# Altium footprint library SPT3G_LCBoard.PcbLib: 31 footprints (part 1 of 2)
Each footprint in its own frame and in the unit in brackets; x right, y up, seen from the top. Pads: shape width x height; smd on the part's side, far side on the other; paste and mask are expansions set on the pad; w line width, h text height; cw(c..) or ccw(c..) is an arc to the next point about the centre after c.
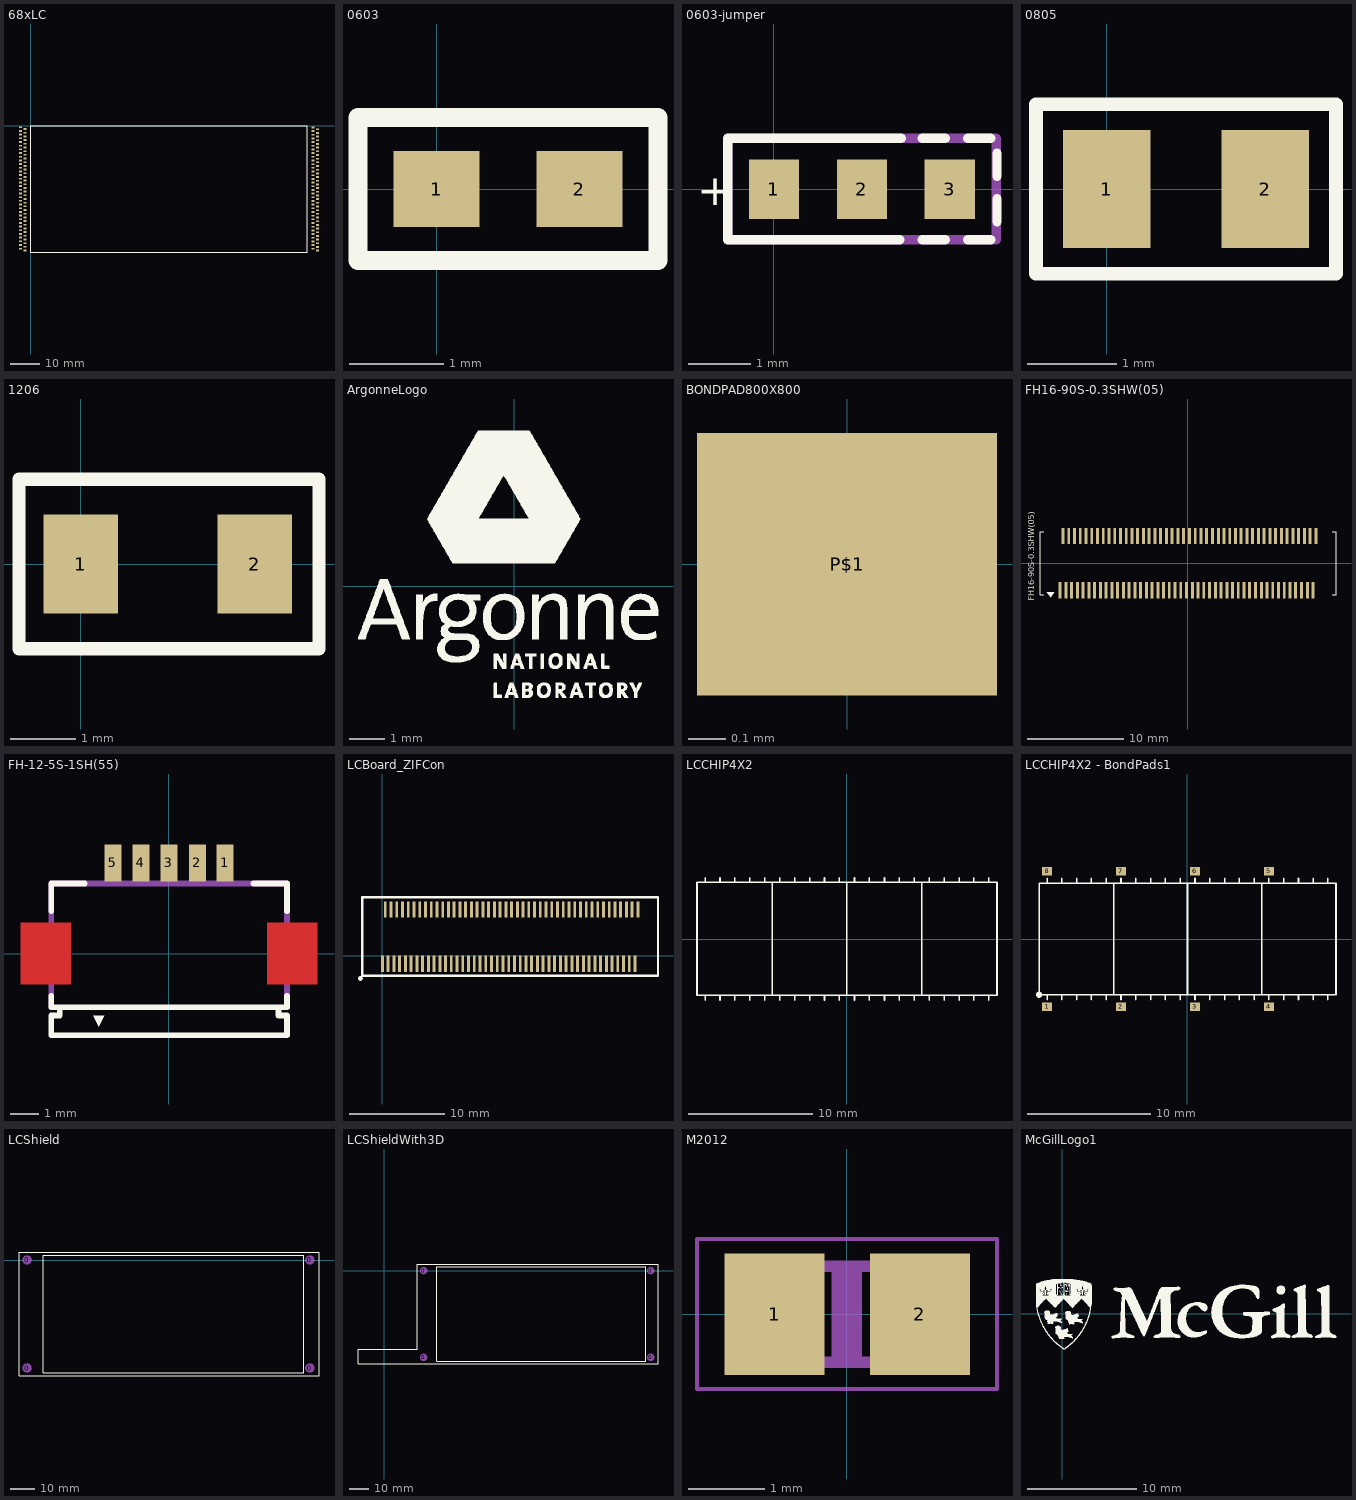
[diagram p0: the footprints below, top view; thin cyan lines are the x and y axes]

## 68xLC [mm]
pads (136):
  rect 1x0.6 smd: 1(-3.5,-0.49) 2(-2,-1.11) 3(-3.5,-1.73) 4(-2,-2.35) 5(-3.5,-2.97) 6(-2,-3.59) 7(-3.5,-4.21) 8(-2,-4.83) 9(-3.5,-5.45) 10(-2,-6.07) 11(-3.5,-6.69) 12(-2,-7.31) 13(-3.5,-7.93) 14(-2,-8.55) 15(-3.5,-9.17) 16(-2,-9.79) 17(-3.5,-10.41) 18(-2,-11.03) 19(-3.5,-11.65) 20(-2,-12.27) 21(-3.5,-12.89) 22(-2,-13.51) 23(-3.5,-14.13) 24(-2,-14.75) 25(-3.5,-15.37) 26(-2,-15.99) 27(-3.5,-16.61) 28(-2,-17.23) 29(-3.5,-17.85) 30(-2,-18.47) 31(-3.5,-19.09) 32(-2,-19.71) 33(-3.5,-20.33) 34(-2,-20.95) 35(-3.5,-21.57) 36(-2,-22.19) 37(-3.5,-22.81) 38(-2,-23.43) 39(-3.5,-24.05) 40(-2,-24.67) 41(-3.5,-25.29) 42(-2,-25.91) 43(-3.5,-26.53) 44(-2,-27.15) 45(-3.5,-27.77) 46(-2,-28.39) 47(-3.5,-29.01) 48(-2,-29.63) 49(-3.5,-30.25) 50(-2,-30.87) 51(-3.5,-31.49) 52(-2,-32.11) 53(-3.5,-32.73) 54(-2,-33.35) 55(-3.5,-33.97) 56(-2,-34.59) 57(-3.5,-35.21) 58(-2,-35.83) 59(-3.5,-36.45) 60(-2,-37.07) 61(-3.5,-37.69) 62(-2,-38.31) 63(-3.5,-38.93) 64(-2,-39.55) 65(-3.5,-40.17) 66(-2,-40.79) 67(-3.5,-41.41) 68(-2,-42.03) 69(96.61,-42.073) 70(95.11,-41.453) 71(96.61,-40.832) 72(95.11,-40.213) 73(96.61,-39.593) 74(95.11,-38.973) 75(96.61,-38.352) 76(95.11,-37.733) 77(96.61,-37.113) 78(95.11,-36.493) 79(96.61,-35.873) 80(95.11,-35.253) 81(96.61,-34.633) 82(95.11,-34.013) 83(96.61,-33.393) 84(95.11,-32.773) 85(96.61,-32.153) 86(95.11,-31.533) 87(96.61,-30.913) 88(95.11,-30.293) 89(96.61,-29.673) 90(95.11,-29.053) 91(96.61,-28.433) 92(95.11,-27.813) 93(96.61,-27.193) 94(95.11,-26.573) 95(96.61,-25.953) 96(95.11,-25.333) 97(96.61,-24.713) 98(95.11,-24.093) 99(96.61,-23.473) 100(95.11,-22.853) 101(96.61,-22.232) 102(95.11,-21.612) 103(96.61,-20.993) 104(95.11,-20.373) 105(96.61,-19.752) 106(95.11,-19.132) 107(96.61,-18.513) 108(95.11,-17.893) 109(96.61,-17.272) 110(95.11,-16.652) 111(96.61,-16.033) 112(95.11,-15.413) 113(96.61,-14.792) 114(95.11,-14.172) 115(96.61,-13.553) 116(95.11,-12.933) 117(96.61,-12.313) 118(95.11,-11.693) 119(96.61,-11.073) 120(95.11,-10.453) 121(96.61,-9.833) 122(95.11,-9.213) 123(96.61,-8.592) 124(95.11,-7.973) 125(96.61,-7.352) 126(95.11,-6.733) 127(96.61,-6.112) 128(95.11,-5.493) 129(96.61,-4.872) 130(95.11,-4.253) 131(96.61,-3.632) 132(95.11,-3.013) 133(96.61,-2.392) 134(95.11,-1.773) 135(96.61,-1.152) 136(95.11,-0.533)
Top Overlay:
  lines w0.152: -0.078,-42.681 0,-42.681 93.11,-42.681 93.188,-42.681 ; -0.076,-42.68 -0.076,-42.605 -0.076,0 -0.076,0.078 0.001,0.078 ; 0,0.076 93.11,0.076 93.188,0.076 93.188,-0.001 ; 93.186,-42.681 93.186,0
3D body: height 2, standoff 0, extent 0,-42.605 93.11,0

## 0603 [mil]
pads (2):
  rect 36x32 smd: 1(0,0) 2(60,0)
Top Overlay:
  lines w8: -33,-30 -33,30 93,30 93,-30 -33,-30

## 0603-jumper [mil]
pads (3):
  rect 32x38 smd: 1(0,0) 2(56,0) 3(112,0)
Top Overlay:
  lines w6: 80,-32 -29.5,-32 -29.5,32.5 81,32.5 ; 94.5,-32 109,-32 ; 94.5,32.5 109,32.5 ; 123.5,-32 138,-32 ; 123.5,32.5 138,32.5 ; 142,-20.5 142,-6 ; 142,8.5 142,23
  text "+" at -49,-10 h20
Mechanical 1:
  lines w6: -29.5,-32 -29.5,32.5 141.5,32.5 141.5,-32 -29.5,-32

## 0805 [mil]
pads (2):
  rect 38.5x52 smd: 1(0,0) 2(70,0)
Top Overlay:
  lines w6: -31.25,-37.5 -31.25,37.5 101.25,37.5 101.25,-37.5 -31.25,-37.5
3D body: height 20, standoff 0, extent -19,-26 89,26

## 1206 [mil]
pads (2):
  rect 45x60 smd: 1(0,0) 2(105,0)
Top Overlay:
  lines w8: -37.4,-51.18 143.7,-51.18 143.7,51.18 -37.4,51.18 -37.4,-51.18

## ArgonneLogo [mil]
Top Overlay:
  drawing of 2632 lines, arcs and shapes, not listed

## BONDPAD800X800 [mil] "BONDPAD800X800"
pads (1):
  rect 32x28 smd: P$1(0,0)
Mechanical 16:
  rectangle: -15.75,-13.78 16,14

## FH16-90S-0.3SHW(05) [mil] "FH16-90S-0.3SHW(05)"
pads (90):
  rect 12x67 smd: 1(526,112) 2(514,-111.22) 3(502,112) 4(491,-111.22) 5(479,112) 6(467,-111.22) 7(455,112) 8(443,-111.22) 9(432,112) 10(420,-111.22) 11(408,112) 12(396,-111.22) 13(384,112) 14(373,-111.22) 15(361,112) 16(349,-111.22) 17(337,112) 18(325,-111.22) 19(313,112) 20(302,-111.22) 21(290,112) 22(278,-111.22) 23(266,112) 24(254,-111.22) 25(243,112) 26(231,-111.22) 27(219,112) 28(207,-111.22) 29(195,112) 30(184,-111.22) 31(172,112) 32(160,-111.22) 33(148,112) 34(136,-111.22) 35(125,112) 36(113,-111.22) 37(101,112) 38(89,-111.22) 39(77,112) 40(65,-111.22) 41(54,112) 42(42,-111.22) 43(30,112) 44(18,-111.22) 45(6,112) 46(-5.91,-111.22) 47(-17.72,112) 48(-29.53,-111.22) 49(-41.34,112) 50(-53.15,-111.22) 51(-64.96,112) 52(-76.77,-111.22) 53(-88.58,112) 54(-100.39,-111.22) 55(-112.2,112) 56(-124.02,-111.22) 57(-135.83,112) 58(-147.64,-111.22) 59(-159.45,112) 60(-171.26,-111.22) 61(-183.07,112) 62(-194.88,-111.22) 63(-206.69,112) 64(-218.5,-111.22) 65(-230.31,112) 66(-242.13,-111.22) 67(-253.94,112) 68(-265.75,-111.22) 69(-277.56,112) 70(-289.37,-111.22) 71(-301.18,112) 72(-312.99,-111.22) 73(-324.8,112) 74(-336.61,-111.22) 75(-348.43,112) 76(-360.24,-111.22) 77(-372.05,112) 78(-383.86,-111.22) 79(-395.67,112) 80(-407.48,-111.22) 81(-419.29,112) 82(-431.1,-111.22) 83(-442.91,112) 84(-454.72,-111.22) 85(-466.54,112) 86(-478.35,-111.22) 87(-490.16,112) 88(-501.97,-111.22) 89(-513.78,112) 90(-525.59,-111.22)
Top Overlay:
  region: -550,-120 -580,-120 -565,-140
  lines w5: -592.52,-129.92 -608.27,-129.92 -608.27,130 -592.52,130 ; 593,-129.92 609,-129.92 609,130 593,130
  text "FH16-90S-0.3SHW(05)" at -625,-155 h40
Top Solder:
  rectangle: 505,-148.75 524,-73.75
  rectangle: 481,-148.75 500,-73.75
  rectangle: 458,-148.75 476,-73.75
  rectangle: 434,-148.75 453,-73.75
  rectangle: 410,-148.75 429,-73.75
  rectangle: 387,-148.75 406,-73.75
  rectangle: 363,-148.75 382,-73.75
  rectangle: 340,-148.75 358,-73.75
  rectangle: 316,-148.75 335,-73.75
  rectangle: 292,-148.75 311,-73.75
  rectangle: 269,-148.75 287,-73.75
  rectangle: 245,-148.75 264,-73.75
  rectangle: 221,-148.75 240,-73.75
  rectangle: 198,-148.75 217,-73.75
  rectangle: 174,-148.75 193,-73.75
  rectangle: 151,-148.75 169,-73.75
  rectangle: 127,-148.75 146,-73.75
  rectangle: 103,-148.75 122,-73.75
  rectangle: 80,-148.75 98,-73.75
  rectangle: 56,-148.75 75,-73.75
  rectangle: 32,-148.75 51,-73.75
  rectangle: 9,-148.75 28,-73.75
  rectangle: -15.25,-148.75 4,-73.75
  rectangle: -38.75,-148.75 -20,-73.75
  rectangle: -62.5,-148.75 -43.75,-73.75
  rectangle: -86,-148.75 -67.25,-73.75
  rectangle: -109.75,-148.75 -91,-73.75
  rectangle: -133.25,-148.75 -114.5,-73.75
  rectangle: -157,-148.75 -138.25,-73.75
  rectangle: -180.5,-148.75 -161.75,-73.75
  rectangle: -204.25,-148.75 -185.5,-73.75
  rectangle: -227.75,-148.75 -209,-73.75
  rectangle: -251.5,-148.75 -232.75,-73.75
  rectangle: -275,-148.75 -256.25,-73.75
  rectangle: -298.75,-148.75 -280,-73.75
  rectangle: -322.25,-148.75 -303.5,-73.75
  rectangle: -346,-148.75 -327.25,-73.75
  rectangle: -369.5,-148.75 -350.75,-73.75
  rectangle: -393.25,-148.75 -374.5,-73.75
  rectangle: -416.75,-148.75 -398,-73.75
  rectangle: -440.5,-148.75 -421.75,-73.75
  rectangle: -464,-148.75 -445.25,-73.75
  rectangle: -487.75,-148.75 -469,-73.75
  rectangle: -511.25,-148.75 -492.5,-73.75
  rectangle: -535,-148.75 -516.25,-73.75
  rectangle: 517,74 535,149
  rectangle: 493,74 512,149
  rectangle: 469,74 488,149
  rectangle: 446,74 465,149
  rectangle: 422,74 441,149
  rectangle: 399,74 417,149
  rectangle: 375,74 394,149
  rectangle: 351,74 370,149
  rectangle: 328,74 346,149
  rectangle: 304,74 323,149
  rectangle: 280,74 299,149
  rectangle: 257,74 276,149
  rectangle: 233,74 252,149
  rectangle: 210,74 228,149
  rectangle: 186,74 205,149
  rectangle: 162,74 181,149
  rectangle: 139,74 157,149
  rectangle: 115,74 134,149
  rectangle: 91,74 110,149
  rectangle: 68,74 87,149
  rectangle: 44,74 63,149
  rectangle: 21,74 39,149
  rectangle: -3.5,74 16,149
  rectangle: -27,74 -8.25,149
  rectangle: -50.75,74 -32,149
  rectangle: -74.25,74 -55.5,149
  rectangle: -98,74 -79.25,149
  rectangle: -121.5,74 -102.75,149
  rectangle: -145.25,74 -126.5,149
  rectangle: -168.75,74 -150,149
  rectangle: -192.5,74 -173.75,149
  rectangle: -216,74 -197.25,149
  rectangle: -239.75,74 -221,149
  rectangle: -263.25,74 -244.5,149
  rectangle: -287,74 -268.25,149
  rectangle: -310.5,74 -291.75,149
  rectangle: -334.25,74 -315.5,149
  rectangle: -357.75,74 -339,149
  rectangle: -381.5,74 -362.75,149
  rectangle: -405,74 -386.25,149
  rectangle: -428.75,74 -410,149
  rectangle: -452.25,74 -433.5,149
  rectangle: -476,74 -457.25,149
  rectangle: -499.5,74 -480.75,149
  rectangle: -523.25,74 -504.5,149

## FH-12-5S-1SH(55) [mil] "FH-12-5S-1SH(55)"
pads (5):
  rect 24x52 smd: 1(79,128) 2(40,128) 3(0,128) 4(-39.37,128) 5(-78.74,128)
Top Layer:
  region: -137.8,44 -208.66,44 -208.66,-43.31 -137.8,-43.31
  region: 209,44 138,44 138,-43.31 209,-43.31
Top Overlay:
  region: -106.3,-86.61 -98.43,-102.36 -90.55,-86.61
  lines w8: -165.35,-59.06 -165.35,-74.8 -153.54,-74.8 ; -165.35,60 -165.35,99 -118.11,99 ; 119,99 166,99 166,60 ; 166,-59.06 166,-74.8 154,-74.8 ; -153.54,-74.8 154,-74.8 ; -153.54,-74.8 -153.54,-86.61 -165.35,-86.61 -165.35,-114.17 166,-114.17 166,-86.61 154,-86.61 154,-74.8
Top Paste:
  region: -140.75,41 -205.71,41 -205.71,-40.35 -140.75,-40.35
  region: 206,41 141,41 141,-40.35 206,-40.35
  rectangle: 69,105 89,152
  rectangle: 30,105 50,152
  rectangle: -9.84,105 10,152
  rectangle: -49.21,105 -29.53,152
  rectangle: -88.58,105 -68.9,152
Top Solder:
  region: -135.83,47 -210.63,47 -210.63,-46.26 -135.83,-46.26
  region: 211,47 136,47 136,-46.26 211,-46.26
  rectangle: 65,101 93,156
  rectangle: 26,101 54,156
  rectangle: -13.78,101 14,156
  rectangle: -53.15,101 -25.59,156
  rectangle: -92.52,101 -64.96,156
Mechanical 16:
  rectangle: 75,101 83,134
  rectangle: 36,101 44,134
  rectangle: -3.94,101 4,134
  rectangle: -43.31,101 -35.43,134
  rectangle: -82.68,101 -74.8,134
  lines w8: -165.35,-74.8 -165.35,-19.68 -185.04,-19.68 -185.04,20 -165.35,20 -165.35,99 166,99 166,20 186,20 186,-19.68 166,-19.68 166,-74.8

## LCBoard_ZIFCon [mm]
pads (91):
  rect 0.3x1.7 smd: 1(0,-0.85) 2(0.3,4.8) 3(0.6,-0.85) 4(0.9,4.8) 5(1.2,-0.85) 6(1.5,4.8) 7(1.8,-0.85) 8(2.1,4.8) 9(2.4,-0.85) 10(2.7,4.8) 11(3,-0.85) 12(3.3,4.8) 13(3.6,-0.85) 14(3.9,4.8) 15(4.2,-0.85) 16(4.5,4.8) 17(4.8,-0.85) 18(5.1,4.8) 19(5.4,-0.85) 20(5.7,4.8) 21(6,-0.85) 22(6.3,4.8) 23(6.6,-0.85) 24(6.9,4.8) 25(7.2,-0.85) 26(7.5,4.8) 27(7.8,-0.85) 28(8.1,4.8) 29(8.4,-0.85) 30(8.7,4.8) 31(9,-0.85) 32(9.3,4.8) 33(9.6,-0.85) 34(9.9,4.8) 35(10.2,-0.85) 36(10.5,4.8) 37(10.8,-0.85) 38(11.1,4.8) 39(11.4,-0.85) 40(11.7,4.8) 41(12,-0.85) 42(12.3,4.8) 43(12.6,-0.85) 44(12.9,4.8) 45(13.2,-0.85) 46(13.5,4.8) 47(13.8,-0.85) 48(14.1,4.8) 49(14.4,-0.85) 50(14.7,4.8) 51(15,-0.85) 52(15.3,4.8) 53(15.6,-0.85) 54(15.9,4.8) 55(16.2,-0.85) 56(16.5,4.8) 57(16.8,-0.85) 58(17.1,4.8) 59(17.4,-0.85) 60(17.7,4.8) 61(18,-0.85) 62(18.3,4.8) 63(18.6,-0.85) 64(18.9,4.8) 65(19.2,-0.85) 66(19.5,4.8) 67(19.8,-0.85) 68(20.1,4.8) 69(20.4,-0.85) 70(20.7,4.8) 71(21,-0.85) 72(21.3,4.8) 73(21.6,-0.85) 74(21.9,4.8) 75(22.2,-0.85) 76(22.5,4.8) 77(22.8,-0.85) 78(23.1,4.8) 79(23.4,-0.85) 80(23.7,4.8) 81(24,-0.85) 82(24.3,4.8) 83(24.6,-0.85) 84(24.9,4.8) 85(25.2,-0.85) 86(25.5,4.8) 87(25.8,-0.85) 88(26.1,4.8) 89(26.4,-0.85) 90(26.7,4.8)
  round 0.5 on Top Overlay: 2(-2.3,-2.4)
Top Overlay:
  lines w0.254: -2.1,-2.1 -2.1,6.1 28.8,6.1 28.8,-2.1 -2.1,-2.1
3D body: height 6.5, standoff 0, extent -2.1,-1.725 28.8,5.675

## LCCHIP4X2 [mil] "LCCHIP4X2"
Top Overlay:
  lines w5: -448.82,-193.9 -448.82,-178.15 ; -448.82,194 -448.82,179 ; -401.57,-193.9 -401.57,-178.15 ; -401.57,194 -401.57,179 ; -354.33,-193.9 -354.33,-178.15 ; -354.33,194 -354.33,179 ; -307.09,-193.9 -307.09,-178.15 ; -307.09,194 -307.09,179 ; -259.84,-193.9 -259.84,-178.15 ; -259.84,194 -259.84,179 ; -212.6,-193.9 -212.6,-178.15 ; -212.6,194 -212.6,179 ; -165.35,-193.9 -165.35,-178.15 ; -165.35,194 -165.35,179 ; -118.11,-193.9 -118.11,-178.15 ; -118.11,194 -118.11,179 ; -70.87,-193.9 -70.87,-178.15 ; -70.87,194 -70.87,179 ; -23.62,-193.9 -23.62,-178.15 ; -23.62,194 -23.62,179 ; 24,-193.9 24,-178.15 ; 24,194 24,179 ; 71,-193.9 71,-178.15 ; 71,194 71,179 ; 119,-193.9 119,-178.15 ; 119,194 119,179 ; 166,-193.9 166,-178.15 ; 166,194 166,179 ; 213,-193.9 213,-178.15 ; 213,194 213,179 ; 260,-193.9 260,-178.15 ; 260,194 260,179 ; 308,-193.9 308,-178.15 ; 308,194 308,179 ; 355,-193.9 355,-178.15 ; 355,194 355,179 ; 402,-193.9 402,-178.15 ; 402,194 402,179 ; 449,-193.9 449,-178.15 ; 449,194 449,179 ; -448.82,-178.15 -474.41,-178.15 -474.41,179 -448.82,179 ; -448.82,-178.15 -401.57,-178.15 ; -448.82,179 -401.57,179 ; -401.57,-178.15 -354.33,-178.15 ; -401.57,179 -354.33,179 ; -354.33,-178.15 -307.09,-178.15 ; -354.33,179 -307.09,179 ; -307.09,-178.15 -259.84,-178.15 ; -307.09,179 -259.84,179 ; -259.84,-178.15 -236.22,-178.15 ; -259.84,179 -236.22,179 ; -236.22,-178.15 -212.6,-178.15 ; -236.22,-178.15 -236.22,179 ; -236.22,179 -212.6,179 ; -212.6,-178.15 -165.35,-178.15 ; -212.6,179 -165.35,179 ; -165.35,-178.15 -118.11,-178.15 ; -165.35,179 -118.11,179 ; -118.11,-178.15 -70.87,-178.15 ; -118.11,179 -70.87,179 ; -70.87,-178.15 -23.62,-178.15 ; -70.87,179 -23.62,179 ; -23.62,-178.15 0,-178.15 ; -23.62,179 0,179 ; 0,-178.15 24,-178.15 ; 0,-178.15 0,179 ; 0,179 24,179 ; 24,-178.15 71,-178.15 ; 24,179 71,179 ; 71,-178.15 119,-178.15 ; 71,179 119,179 ; 119,-178.15 166,-178.15 ; 119,179 166,179 ; 166,-178.15 213,-178.15 ; 166,179 213,179 ; 213,-178.15 237,-178.15 ; 213,179 237,179 ; 237,-178.15 260,-178.15 ; 237,-178.15 237,179 ; 237,179 260,179 ; 260,-178.15 308,-178.15 ; 260,179 308,179 ; 308,-178.15 355,-178.15 ; 308,179 355,179 ; 355,-178.15 402,-178.15 ; 355,179 402,179 ; 402,-178.15 449,-178.15 ; 402,179 449,179 ; 449,-178.15 475,-178.15 475,179 449,179

## LCCHIP4X2 - BondPads1 [mil] "LCCHIP4X2"
pads (9):
  round 20 on Top Overlay: 0(-474.41,-178.15)
  rect 32x28 smd: 1(-448.82,-216.9) 2(-212.6,-216.9) 3(24,-216.9) 4(260,-216.9) 5(260,217) 6(24,217) 7(-212.6,217) 8(-448.82,217)
Top Overlay:
  lines w5: -448.82,-193.9 -448.82,-178.15 ; -448.82,194 -448.82,179 ; -401.57,-193.9 -401.57,-178.15 ; -401.57,194 -401.57,179 ; -354.33,-193.9 -354.33,-178.15 ; -354.33,194 -354.33,179 ; -307.09,-193.9 -307.09,-178.15 ; -307.09,194 -307.09,179 ; -259.84,-193.9 -259.84,-178.15 ; -259.84,194 -259.84,179 ; -212.6,-193.9 -212.6,-178.15 ; -212.6,194 -212.6,179 ; -165.35,-193.9 -165.35,-178.15 ; -165.35,194 -165.35,179 ; -118.11,-193.9 -118.11,-178.15 ; -118.11,194 -118.11,179 ; -70.87,-193.9 -70.87,-178.15 ; -70.87,194 -70.87,179 ; -23.62,-193.9 -23.62,-178.15 ; -23.62,194 -23.62,179 ; 24,-193.9 24,-178.15 ; 24,194 24,179 ; 71,-193.9 71,-178.15 ; 71,194 71,179 ; 119,-193.9 119,-178.15 ; 119,194 119,179 ; 166,-193.9 166,-178.15 ; 166,194 166,179 ; 213,-193.9 213,-178.15 ; 213,194 213,179 ; 260,-193.9 260,-178.15 ; 260,194 260,179 ; 308,-193.9 308,-178.15 ; 308,194 308,179 ; 355,-193.9 355,-178.15 ; 355,194 355,179 ; 402,-193.9 402,-178.15 ; 402,194 402,179 ; 449,-193.9 449,-178.15 ; 449,194 449,179 ; -448.82,-178.15 -474.41,-178.15 -474.41,179 -448.82,179 ; -448.82,-178.15 -401.57,-178.15 ; -448.82,179 -401.57,179 ; -401.57,-178.15 -354.33,-178.15 ; -401.57,179 -354.33,179 ; -354.33,-178.15 -307.09,-178.15 ; -354.33,179 -307.09,179 ; -307.09,-178.15 -259.84,-178.15 ; -307.09,179 -259.84,179 ; -259.84,-178.15 -236.22,-178.15 ; -259.84,179 -236.22,179 ; -236.22,-178.15 -212.6,-178.15 ; -236.22,-178.15 -236.22,179 ; -236.22,179 -212.6,179 ; -212.6,-178.15 -165.35,-178.15 ; -212.6,179 -165.35,179 ; -165.35,-178.15 -118.11,-178.15 ; -165.35,179 -118.11,179 ; -118.11,-178.15 -70.87,-178.15 ; -118.11,179 -70.87,179 ; -70.87,-178.15 -23.62,-178.15 ; -70.87,179 -23.62,179 ; -23.62,-178.15 0,-178.15 ; -23.62,179 0,179 ; 0,-178.15 24,-178.15 ; 0,-178.15 0,179 ; 0,179 24,179 ; 24,-178.15 71,-178.15 ; 24,179 71,179 ; 71,-178.15 119,-178.15 ; 71,179 119,179 ; 119,-178.15 166,-178.15 ; 119,179 166,179 ; 166,-178.15 213,-178.15 ; 166,179 213,179 ; 213,-178.15 237,-178.15 ; 213,179 237,179 ; 237,-178.15 260,-178.15 ; 237,-178.15 237,179 ; 237,179 260,179 ; 260,-178.15 308,-178.15 ; 260,179 308,179 ; 308,-178.15 355,-178.15 ; 308,179 355,179 ; 355,-178.15 402,-178.15 ; 355,179 402,179 ; 402,-178.15 449,-178.15 ; 402,179 449,179 ; 449,-178.15 475,-178.15 475,179 449,179

## LCShield [mil]
pads (4):
  round 150 on Mech1: 0(788.66,-1726.28) 0(788.66,6.14) 0(5321.66,-1726.14) 0(5321.66,5.99)
Top Overlay:
  lines w10: 659,-1563 659,-1850 5468,-1850 5468,129 661,129 661,-1563 ; 1047.16,-1799 1047.16,-1766.51 1047.16,44.51 1047.16,78 5221,78 5221,-1799 1047.16,-1799

## LCShieldWith3D [mil]
pads (4):
  round 150 on Mech1: 0(788.66,-1726.28) 0(788.66,6.14) 0(5321.66,-1726.14) 0(5321.66,5.99)
Top Overlay:
  lines w10: -520,-1850 5468,-1850 5468,129 661,129 661,-1563 622.11,-1563 -520,-1563 -520,-1850 ; 1047.16,-1799 1047.16,-1766.51 1047.16,44.51 1047.16,78 5221,78 5221,-1799 1047.16,-1799
3D body "LCShield_frontside_rev4_20160201.SLDPRT": height 194.91, standoff 2, extent -514.93,-1844.25 5462.86,124.25

## M2012 [mil] "M2012"
pads (2):
  rect 52x63 smd: 1(-37.4,0) 2(38,0)
Mechanical 6:
  rectangle: -7.87,-23.62 8,24
Mechanical 16:
  rectangle: -41,-28 -27,28
  rectangle: 27,-28 41,28
  lines w2: -77.68,-38.7 78,-38.7 78,39 -77.68,39 -77.68,-38.7
  lines w6: -28,-25 28,-25 ; -28,25 28,25

## McGillLogo1 [mil] "McGillLogo"
Top Overlay:
  drawing of 2700 lines, arcs and shapes, not listed